# Altium schematic symbol library 74xGxx.SchLib: 174 symbols (part 2 of 2)
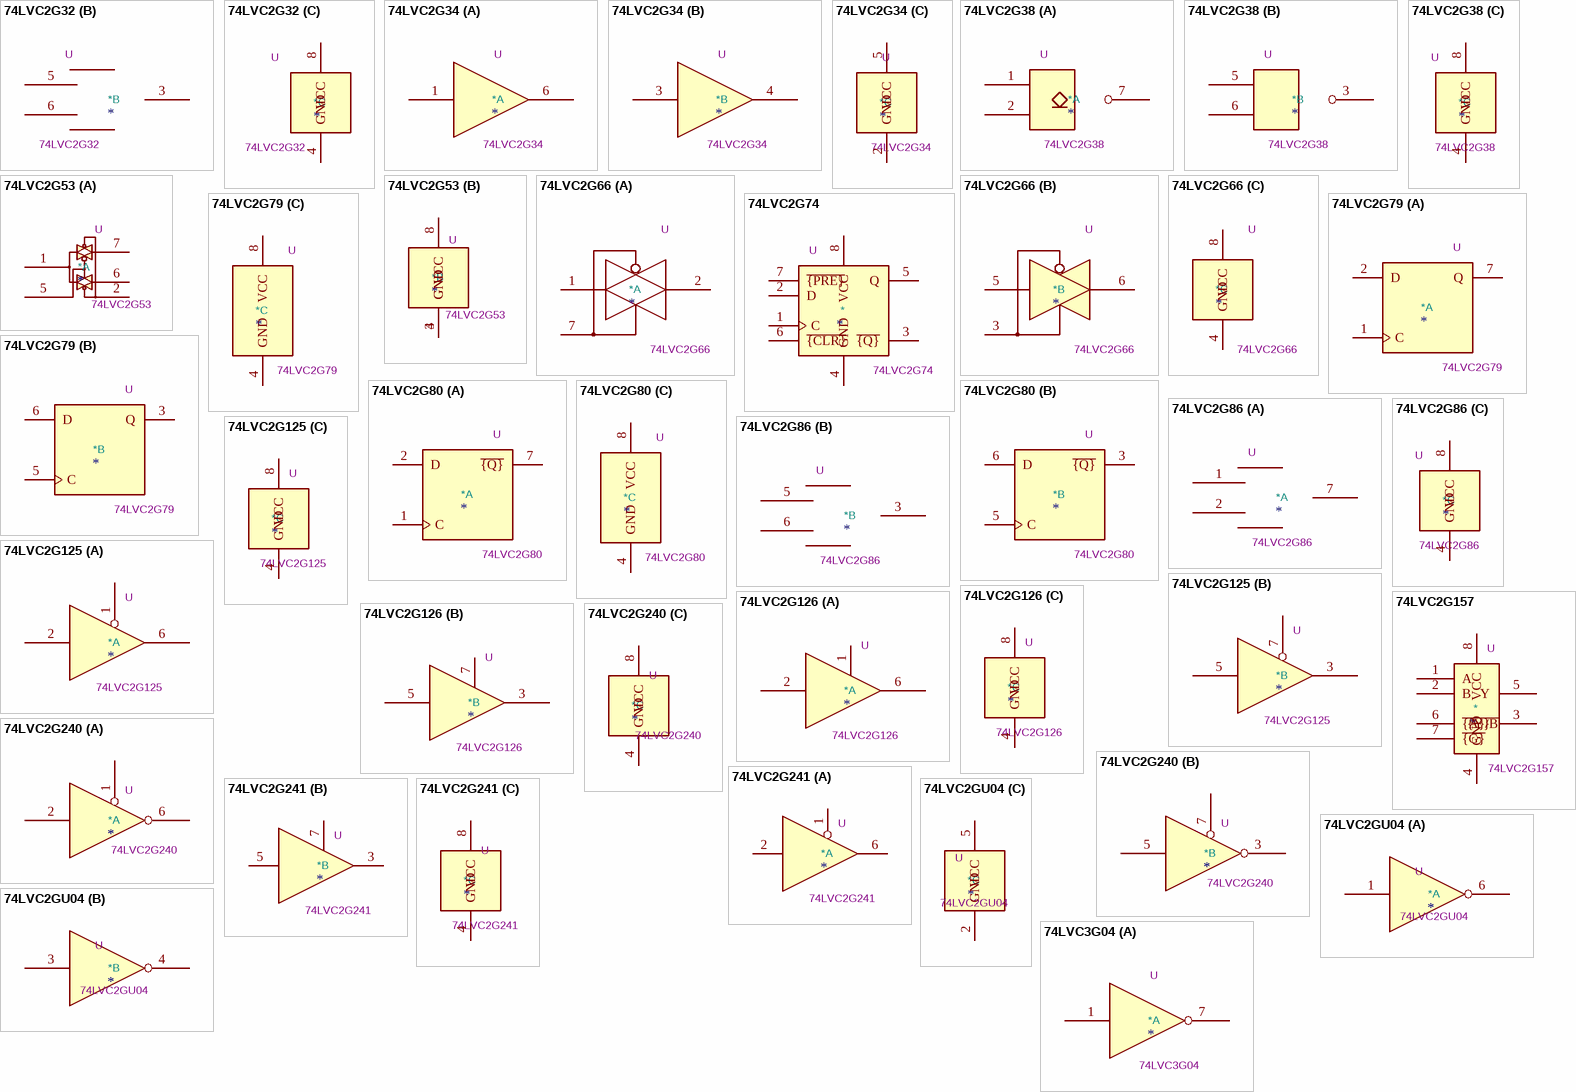
[diagram p8: symbols 74LVC2G32 to 74LVC3G04]

## 74LVC2G125
designator *  value 74LVC2G125  Reference: U
Dual Buffer Tri-State, Low-Voltage CMOS; ki_keywords: Dual Buff Tri-State LVC CMOS; ki_fp_filters: VSSOP*; Datasheet: http://www.ti.com/lit/sg/scyt129e/scyt129e.pdf; Description_: Dual Buffer Tri-State, Low-Voltage CMOS
part A pins: 1, 2, 6
part B pins: 3, 5, 7
part C pins: 4 GND, 8 VCC

## 74LVC2G126
designator *  value 74LVC2G126  Reference: U
Dual Buffer Tri-State, Low-Voltage CMOS; ki_keywords: Dual Buff Tri-State LVC CMOS; ki_fp_filters: VSSOP*; Datasheet: http://www.ti.com/lit/sg/scyt129e/scyt129e.pdf; Description_: Dual Buffer Tri-State, Low-Voltage CMOS
part A pins: 1, 2, 6
part B pins: 3, 5, 7
part C pins: 4 GND, 8 VCC

## 74LVC2G157
designator *  value 74LVC2G157  Reference: U
Single 2 to 1 Multiplexer, Low-Voltage CMOS; ki_keywords: Single Mux CMOS; ki_fp_filters: SSOP* VSSOP*; Datasheet: http://www.ti.com/lit/sg/scyt129e/scyt129e.pdf; Description_: Single 2 to 1 Multiplexer, Low-Voltage CMOS
pins: 1 A, 2 B, 3 ~{{Y}}, 4 GND, 5 Y, 6 ~{{A}/B}, 7 ~{{G}}, 8 VCC

## 74LVC2G240
designator *  value 74LVC2G240  Reference: U
Dual Inverter Buffer Tri-State, Low-Voltage CMOS; ki_keywords: Dual Inv Buff Tri-State LVC CMOS; ki_fp_filters: VSSOP*; Datasheet: http://www.ti.com/lit/sg/scyt129e/scyt129e.pdf; Description_: Dual Inverter Buffer Tri-State, Low-Voltage CMOS
part A pins: 1, 2, 6
part B pins: 3, 5, 7
part C pins: 4 GND, 8 VCC

## 74LVC2G241
designator *  value 74LVC2G241  Reference: U
Dual Buffer Tri-State, Low-Voltage CMOS; ki_keywords: Dual Buff Tri-State LVC CMOS; ki_fp_filters: VSSOP*; Datasheet: http://www.ti.com/lit/sg/scyt129e/scyt129e.pdf; Description_: Dual Buffer Tri-State, Low-Voltage CMOS
part A pins: 1, 2, 6
part B pins: 3, 5, 7
part C pins: 4 GND, 8 VCC

## 74LVC2GU04
designator *  value 74LVC2GU04  Reference: U
74LVC2G04, Dual NOT Gate, Low-Voltage CMOS; ki_keywords: Dual Gate NOT LVC CMOS; ki_fp_filters: SG-* SOT*; Datasheet: http://www.ti.com/lit/sg/scyt129e/scyt129e.pdf; Description_: 74LVC2G04, Dual NOT Gate, Low-Voltage CMOS
part A pins: 1, 6
part B pins: 3, 4
part C pins: 2 GND, 5 VCC

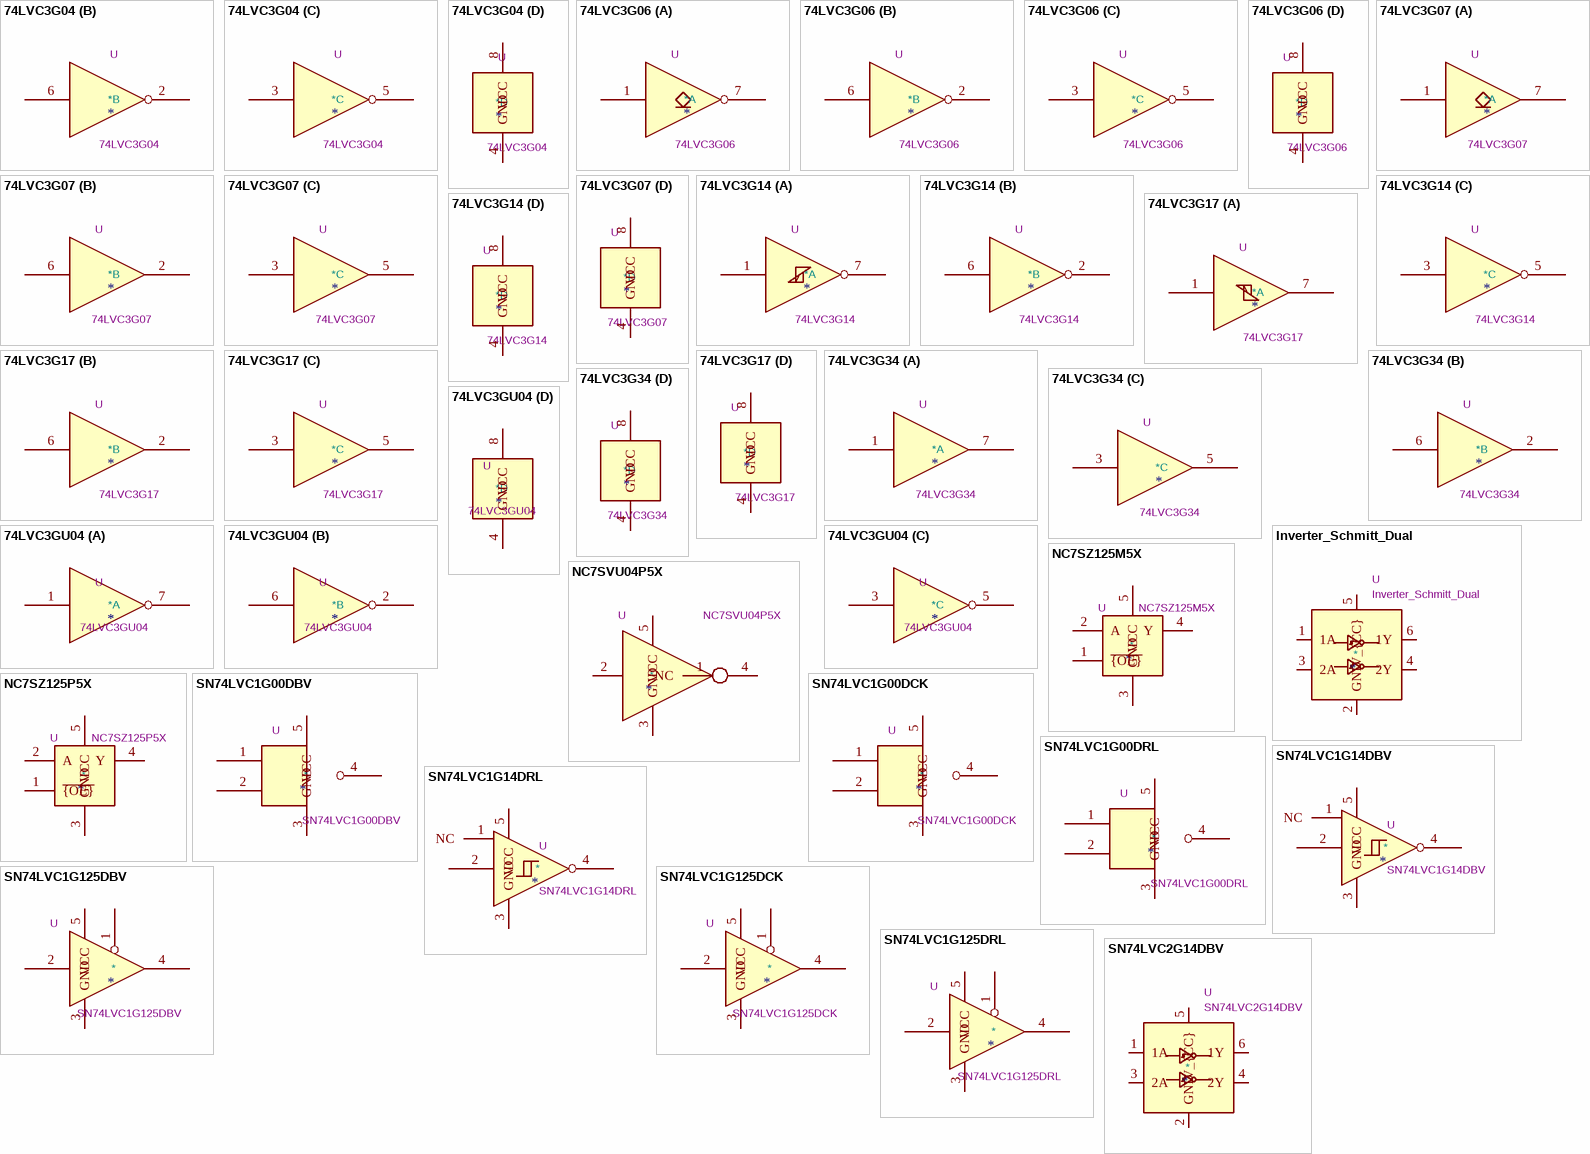
[diagram p6: symbols 74LVC3G04 to SN74LVC2G14DBV]

## 74LVC3G04
designator *  value 74LVC3G04  Reference: U
Triple NOT Gate, Low-Voltage CMOS; ki_keywords: Triple Gate NOT LVC CMOS; ki_fp_filters: SSOP* VSSOP*; Datasheet: http://www.ti.com/lit/sg/scyt129e/scyt129e.pdf; Description_: Triple NOT Gate, Low-Voltage CMOS
part A pins: 1, 7
part B pins: 2, 6
part C pins: 3, 5
part D pins: 4 GND, 8 VCC

## 74LVC3G06
designator *  value 74LVC3G06  Reference: U
Triple NOT Gate, Open Drain, Low-Voltage CMOS; ki_keywords: Triple Gate NOT Open Drain LVC CMOS; ki_fp_filters: SSOP* VSSOP*; Datasheet: http://www.ti.com/lit/sg/scyt129e/scyt129e.pdf; Description_: Triple NOT Gate, Open Drain, Low-Voltage CMOS
part A pins: 1, 7
part B pins: 2, 6
part C pins: 3, 5
part D pins: 4 GND, 8 VCC

## 74LVC3G07
designator *  value 74LVC3G07  Reference: U
Triple Buffer, Open Drain, Low-Voltage CMOS; ki_keywords: Triple Buff Open Drain LVC CMOS; ki_fp_filters: SSOP* VSSOP*; Datasheet: http://www.ti.com/lit/sg/scyt129e/scyt129e.pdf; Description_: Triple Buffer, Open Drain, Low-Voltage CMOS
part A pins: 1, 7
part B pins: 2, 6
part C pins: 3, 5
part D pins: 4 GND, 8 VCC

## 74LVC3G14
designator *  value 74LVC3G14  Reference: U
Triple NOT Gate Schmitt, Low-Voltage CMOS; ki_keywords: Triple NOT Schmitt LVC CMOS; ki_fp_filters: SSOP* VSSOP*; Datasheet: https://www.ti.com/lit/ds/symlink/sn74lvc3g14.pdf; Description_: Triple NOT Gate Schmitt, Low-Voltage CMOS
part A pins: 1, 7
part B pins: 2, 6
part C pins: 3, 5
part D pins: 4 GND, 8 VCC

## 74LVC3G17
designator *  value 74LVC3G17  Reference: U
Triple Buffer Schmitt, Low-Voltage CMOS; ki_keywords: Triple Buf Schmitt LVC CMOS; ki_fp_filters: SSOP* VSSOP*; Datasheet: http://www.ti.com/lit/sg/scyt129e/scyt129e.pdf; Description_: Triple Buffer Schmitt, Low-Voltage CMOS
part A pins: 1, 7
part B pins: 2, 6
part C pins: 3, 5
part D pins: 4 GND, 8 VCC

## 74LVC3G34
designator *  value 74LVC3G34  Reference: U
Triple Buffer, Low-Voltage CMOS; ki_keywords: Triple Buf LVC CMOS; ki_fp_filters: SSOP* VSSOP*; Datasheet: http://www.ti.com/lit/sg/scyt129e/scyt129e.pdf; Description_: Triple Buffer, Low-Voltage CMOS
part A pins: 1, 7
part B pins: 2, 6
part C pins: 3, 5
part D pins: 4 GND, 8 VCC

## 74LVC3GU04
designator *  value 74LVC3GU04  Reference: U
74LVC3G04, Triple NOT Gate, Low-Voltage CMOS; ki_keywords: Triple Gate NOT LVC CMOS; ki_fp_filters: SSOP* VSSOP*; Datasheet: http://www.ti.com/lit/sg/scyt129e/scyt129e.pdf; Description_: 74LVC3G04, Triple NOT Gate, Low-Voltage CMOS
part A pins: 1, 7
part B pins: 2, 6
part C pins: 3, 5
part D pins: 4 GND, 8 VCC

## Inverter_Schmitt_Dual
designator *  value Inverter_Schmitt_Dual  Reference: U
Dual schmitt inverter; ki_fp_filters: SOT?23* SOT?363* SC?70*; Datasheet: ~; Description_: Dual schmitt inverter; ki_keywords: dual schmitt inverter
pins: 1 1A, 2 GND, 3 2A, 4 2Y, 5 V_{CC}, 6 1Y

## NC7SVU04P5X
designator *  value NC7SVU04P5X  Reference: U
High-Speed Logic Inverter, SOT-353; ki_fp_filters: SOT*353*SC*70*; Footprint: Package_TO_SOT_SMD:SOT-353_SC-70-5; Datasheet: https://www.onsemi.com/pub/Collateral/NC7SVU04-D.pdf; Description_: High-Speed Logic Inverter, SOT-353; ki_keywords: inverter
pins: 1 NC, 2, 3 GND, 4, 5 VCC

## NC7SZ125M5X
designator *  value NC7SZ125M5X  Reference: U
TinyLogic UHS Buffer, Tri-State Output, SOT-23-5; ki_keywords: buffer three-state; ki_fp_filters: SOT?23*; Footprint: Package_TO_SOT_SMD:SOT-23-5; Datasheet: https://www.onsemi.com/pdf/datasheet/nc7sz125-d.pdf; Description_: TinyLogic UHS Buffer, Tri-State Output, SOT-23-5
pins: 1 ~{{OE}}, 2 A, 3 GND, 4 Y, 5 VCC

## NC7SZ125P5X
designator *  value NC7SZ125P5X  Reference: U
TinyLogic UHS Buffer, Tri-State Output, SOT-353; ki_keywords: buffer three-state; ki_fp_filters: SOT*353*; Footprint: Package_TO_SOT_SMD:SOT-353_SC-70-5; Datasheet: https://www.onsemi.com/pdf/datasheet/nc7sz125-d.pdf; Description_: TinyLogic UHS Buffer, Tri-State Output, SOT-353
pins: 1 ~{{OE}}, 2 A, 3 GND, 4 Y, 5 VCC

## SN74LVC1G00DBV
designator *  value SN74LVC1G00DBV  Reference: U
Single NAND Gate, Low-Voltage CMOS, SOT-23; ki_keywords: Single Gate NAND LVC CMOS; ki_fp_filters: SOT?23*; Footprint: Package_TO_SOT_SMD:SOT-23-5; Datasheet: http://www.ti.com/lit/ds/symlink/sn74lvc1g00.pdf; Description_: Single NAND Gate, Low-Voltage CMOS, SOT-23
pins: 1, 2, 3 GND, 4, 5 VCC

## SN74LVC1G00DCK
designator *  value SN74LVC1G00DCK  Reference: U
Single NAND Gate, Low-Voltage CMOS, SOT-353; ki_keywords: Single Gate NAND LVC CMOS; ki_fp_filters: Texas?R?PDSO?G5?DCK*; Footprint: Package_TO_SOT_SMD:Texas_R-PDSO-G5_DCK-5; Datasheet: http://www.ti.com/lit/ds/symlink/sn74lvc1g00.pdf; Description_: Single NAND Gate, Low-Voltage CMOS, SOT-353
pins: 1, 2, 3 GND, 4, 5 VCC

## SN74LVC1G00DRL
designator *  value SN74LVC1G00DRL  Reference: U
Single NAND Gate, Low-Voltage CMOS, SOT-553; ki_keywords: Single Gate NAND LVC CMOS; ki_fp_filters: Texas?R?PDSO?N5?DRL*; Footprint: Package_TO_SOT_SMD:Texas_R-PDSO-N5_DRL-5; Datasheet: http://www.ti.com/lit/ds/symlink/sn74lvc1g00.pdf; Description_: Single NAND Gate, Low-Voltage CMOS, SOT-553
pins: 1, 2, 3 GND, 4, 5 VCC

## SN74LVC1G14DBV
designator *  value SN74LVC1G14DBV  Reference: U
Single Schmitt NOT Gate, Low-Voltage CMOS, SOT-23; ki_keywords: Single Gate NOT Schmitt LVC CMOS; ki_fp_filters: SOT*23*; Footprint: Package_TO_SOT_SMD:SOT-23-5; Datasheet: https://www.ti.com/lit/ds/symlink/sn74lvc1g14.pdf; Description_: Single Schmitt NOT Gate, Low-Voltage CMOS, SOT-23
pins: 1 NC, 2, 3 GND, 4, 5 VCC

## SN74LVC1G14DRL
designator *  value SN74LVC1G14DRL  Reference: U
Single Schmitt NOT Gate, Low-Voltage CMOS, SOT-553; ki_keywords: Single Gate NOT Schmitt LVC CMOS; ki_fp_filters: SOT*553*; Footprint: Package_TO_SOT_SMD:SOT-553; Datasheet: https://www.ti.com/lit/ds/symlink/sn74lvc1g14.pdf; Description_: Single Schmitt NOT Gate, Low-Voltage CMOS, SOT-553
pins: 1 NC, 2, 3 GND, 4, 5 VCC

## SN74LVC1G125DBV
designator *  value SN74LVC1G125DBV  Reference: U
Single Buffer Gate Tri-State, Low-Voltage CMOS, SOT-23-5; ki_keywords: Single Gate Buff Tri-State LVC CMOS; ki_fp_filters: SOT?23*; Footprint: Package_TO_SOT_SMD:SOT-23-5; Datasheet: http://www.ti.com/lit/ds/symlink/sn74lvc1g125.pdf; Description_: Single Buffer Gate Tri-State, Low-Voltage CMOS, SOT-23-5
pins: 1, 2, 3 GND, 4, 5 VCC

## SN74LVC1G125DCK
designator *  value SN74LVC1G125DCK  Reference: U
Single Buffer Gate Tri-State, Low-Voltage CMOS, SOT-353; ki_keywords: Single Gate Buff Tri-State LVC CMOS; ki_fp_filters: Texas?R?PDSO?G5?DCK*; Footprint: Package_TO_SOT_SMD:Texas_R-PDSO-G5_DCK-5; Datasheet: http://www.ti.com/lit/ds/symlink/sn74lvc1g125.pdf; Description_: Single Buffer Gate Tri-State, Low-Voltage CMOS, SOT-353
pins: 1, 2, 3 GND, 4, 5 VCC

## SN74LVC1G125DRL
designator *  value SN74LVC1G125DRL  Reference: U
Single Buffer Gate Tri-State, Low-Voltage CMOS, SOT-553; ki_keywords: Single Gate Buff Tri-State LVC CMOS; ki_fp_filters: Texas?R?PDSO?N5?DRL*; Footprint: Package_TO_SOT_SMD:Texas_R-PDSO-N5_DRL-5; Datasheet: http://www.ti.com/lit/ds/symlink/sn74lvc1g125.pdf; Description_: Single Buffer Gate Tri-State, Low-Voltage CMOS, SOT-553
pins: 1, 2, 3 GND, 4, 5 VCC

## SN74LVC2G14DBV
designator *  value SN74LVC2G14DBV  Reference: U
Dual schmitt inverter, VCC from 1.65 to 5.5 V, SOT-23; ki_fp_filters: SOT?23*; Footprint: Package_TO_SOT_SMD:SOT-23-6; Datasheet: https://www.ti.com/lit/ds/symlink/sn74lvc2g14.pdf; Description_: Dual schmitt inverter, VCC from 1.65 to 5.5 V, SOT-23; ki_keywords: dual schmitt inverter
pins: 1 1A, 2 GND, 3 2A, 4 2Y, 5 V_{CC}, 6 1Y

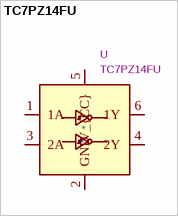
[diagram p7: symbol TC7PZ14FU]

## TC7PZ14FU
designator *  value TC7PZ14FU  Reference: U
Dual schmitt inverter, VCC from 1.65 to 5.5 V, SOT-363; ki_fp_filters: SOT?363*; Footprint: Package_TO_SOT_SMD:SOT-363_SC-70-6; Datasheet: https://toshiba.semicon-storage.com/info/docget.jsp?did=14431&prodName=TC7PZ14FU; Description_: Dual schmitt inverter, VCC from 1.65 to 5.5 V, SOT-363; ki_keywords: dual schmitt inverter
pins: 1 1A, 2 GND, 3 2A, 4 2Y, 5 V_{CC}, 6 1Y